# Altium footprint library 19inch.PCBLIB: 26 footprints (part 2 of 3)
Each footprint in its own frame and in the unit in brackets; x right, y up, seen from the top. Pads: shape width x height; smd on the part's side, far side on the other; paste and mask are expansions set on the pad; w line width, h text height; cw(c..) or ccw(c..) is an arc to the next point about the centre after c.
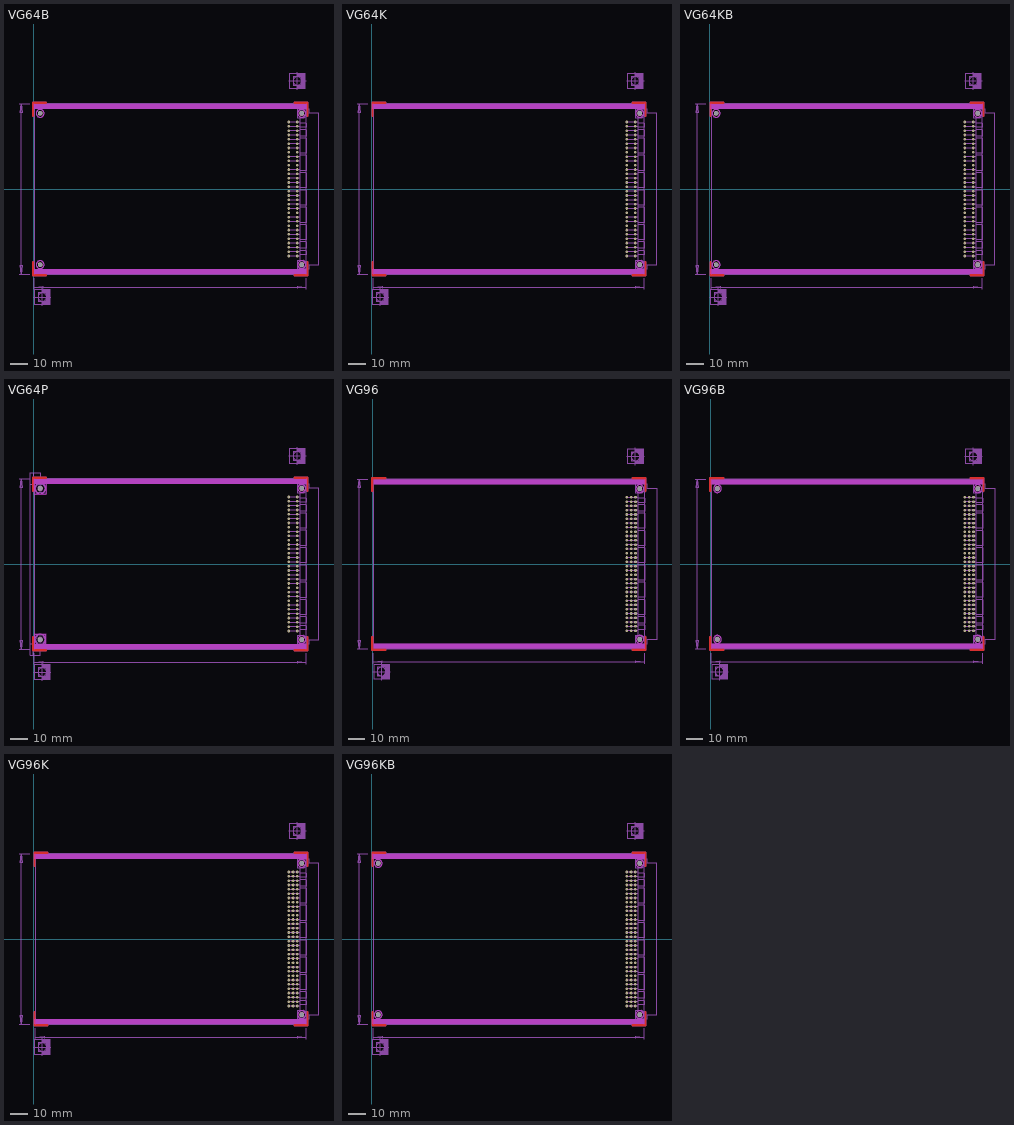
[diagram p1: the footprints below, top view; thin cyan lines are the x and y axes]

## VG64B [mil]
pads (68):
  round 110 hole 110: 1(150,-1750) 1(150,1750) 1(6200,-1750) 1(6200,1750)
  round 63 hole 36: A1(6100,1550)
  oct 61x61 hole 36: A2(6100,1450) A3(6100,1350) A4(6100,1250) A5(6100,1150) A6(6100,1050) A7(6100,950) A8(6100,850) A9(6100,750) A10(6100,650) A11(6100,550) A12(6100,450) A13(6100,350) A14(6100,250) A15(6100,150) A16(6100,50) A17(6100,-50) A18(6100,-150) A19(6100,-250) A20(6100,-350) A21(6100,-450) A22(6100,-550) A23(6100,-650) A24(6100,-750) A25(6100,-850) A26(6100,-950) A27(6100,-1050) A28(6100,-1150) A29(6100,-1250) A30(6100,-1350) A31(6100,-1450) A32(6100,-1550) C1(5900,1550) C2(5900,1450) C3(5900,1350) C4(5900,1250) C5(5900,1150) C6(5900,1050) C7(5900,950) C8(5900,850) C9(5900,750) C10(5900,650) C11(5900,550) C12(5900,450) C13(5900,350) C14(5900,250) C15(5900,150) C16(5900,50) C17(5900,-50) C18(5900,-150) C19(5900,-250) C20(5900,-350) C21(5900,-450) C22(5900,-550) C23(5900,-650) C24(5900,-750) C25(5900,-850) C26(5900,-950) C27(5900,-1050) C28(5900,-1150) C29(5900,-1250) C30(5900,-1350) C31(5900,-1450) C32(5900,-1550)
Top Layer:
  lines w50: -15,-1694 -15,-1994 285,-1994 ; -15,1694 -15,1994 285,1994 ; 6035,-1994 6335,-1994 6335,-1694 ; 6035,1994 6335,1994 6335,1694
Bottom Layer:
  lines w50: -15,-1694 -15,-1994 285,-1994 ; -15,1694 -15,1994 285,1994 ; 6035,-1994 6335,-1994 6335,-1694 ; 6035,1994 6335,1994 6335,1694
Top Solder:
  lines w6: 10,-1669 10,-1969 310,-1969 ; 10,1669 10,1969 310,1969 ; 6010,-1969 6310,-1969 6310,-1669 ; 6010,1969 6310,1969 6310,1669
Bottom Solder:
  lines w6: 10,-1669 10,-1969 310,-1969 ; 10,1669 10,1969 310,1969 ; 6010,-1969 6310,-1969 6310,-1669 ; 6010,1969 6310,1969 6310,1669
Keep-Out Layer:
  rectangle: 10,1850 6310,1969
  rectangle: 10,1850 6310,1969
  rectangle: 10,-1969 6310,-1850
  rectangle: 10,-1969 6310,-1850
  lines w2: 10,-1969 10,-1850 10,-1969 ; 10,1850 10,1969 10,1850 ; 6310,-1969 6310,-1850 6310,-1969 ; 6310,1850 6310,1969 6310,1850
Mechanical 1:
  lines w0: 10,-1969 6310,-1969 6310,1969 10,1969 10,-1969
Mechanical 2:
  circle w6: c6200,1750 r50
  circle w6: c6200,-1750 r50
  rectangle: 6135,1540 6150,1560
  rectangle: 5935,1540 6065,1560
  rectangle: 5935,1440 6065,1460
  rectangle: 5935,1340 6065,1360
  rectangle: 6135,1440 6150,1460
  rectangle: 6135,1340 6150,1360
  rectangle: 6135,1240 6150,1260
  rectangle: 5935,1240 6065,1260
  rectangle: 6135,1140 6150,1160
  rectangle: 6135,1040 6150,1060
  rectangle: 5935,1140 6065,1160
  rectangle: 5935,1040 6065,1060
  rectangle: 5935,940 6065,960
  rectangle: 6135,940 6150,960
  rectangle: 6135,840 6150,860
  rectangle: 5935,840 6065,860
  rectangle: 5935,740 6065,760
  rectangle: 6135,740 6150,760
  rectangle: 5935,640 6065,660
  rectangle: 6135,640 6150,660
  rectangle: 5935,540 6065,560
  rectangle: 6135,540 6150,560
  rectangle: 6135,440 6150,460
  rectangle: 6135,340 6150,360
  rectangle: 5935,440 6065,460
  rectangle: 5935,340 6065,360
  rectangle: 5935,240 6065,260
  rectangle: 6135,240 6150,260
  rectangle: 6135,140 6150,160
  rectangle: 5935,140 6065,160
  rectangle: 5935,40 6065,60
  rectangle: 6135,40 6150,60
  rectangle: 6135,-60 6150,-40
  rectangle: 5935,-60 6065,-40
  rectangle: 6135,-160 6150,-140
  rectangle: 5935,-160 6065,-140
  rectangle: 5935,-260 6065,-240
  rectangle: 6135,-260 6150,-240
  rectangle: 5935,-360 6065,-340
  rectangle: 6135,-360 6150,-340
  rectangle: 6135,-460 6150,-440
  rectangle: 6135,-560 6150,-540
  rectangle: 5935,-460 6065,-440
  rectangle: 5935,-560 6065,-540
  rectangle: 6135,-660 6150,-640
  rectangle: 5935,-660 6065,-640
  rectangle: 5935,-760 6065,-740
  rectangle: 6135,-760 6150,-740
  rectangle: 5935,-860 6065,-840
  rectangle: 6135,-860 6150,-840
  rectangle: 5935,-960 6065,-940
  rectangle: 6135,-960 6150,-940
  rectangle: 5935,-1060 6065,-1040
  rectangle: 6135,-1060 6150,-1040
  rectangle: 5935,-1160 6065,-1140
  rectangle: 6135,-1160 6150,-1140
  rectangle: 5935,-1260 6065,-1240
  rectangle: 6135,-1260 6150,-1240
  rectangle: 6135,-1360 6150,-1340
  rectangle: 5935,-1360 6065,-1340
  rectangle: 5935,-1460 6065,-1440
  rectangle: 6135,-1460 6150,-1440
  rectangle: 6135,-1560 6150,-1540
  rectangle: 5935,-1560 6065,-1540
  lines w2: 6150,-1525 6310,-1525 6310,-1425 6150,-1425 ; 6150,-1375 6310,-1375 6310,-1225 6150,-1225 ; 6150,-1175 6310,-1175 6310,-825 6150,-825 ; 6150,-775 6310,-775 6310,-425 6150,-425 ; 6150,-375 6310,-375 6310,-25 6150,-25 ; 6150,25 6310,25 6310,375 6150,375 ; 6150,425 6310,425 6310,775 6150,775 ; 6150,825 6310,825 6310,1175 6150,1175 ; 6150,1225 6310,1225 6310,1375 6150,1375 ; 6150,1425 6310,1425 6310,1525 6150,1525
  lines w6: 6150,-1650 6100,-1650 6100,-1850 6313,-1850 ; 6150,-1650 6250,-1650 6313,-1713 6313,-1850 ; 6150,-1650 6150,-1525 6150,-1425 6150,-1375 6150,-1225 6150,-1175 6150,-825 6150,-775 6150,-425 6150,-375 6150,-25 6150,25 6150,375 6150,425 6150,775 6150,825 6150,1175 6150,1225 6150,1375 6150,1425 6150,1525 6150,1650 ; 6150,1650 6100,1650 6100,1850 6313,1850 ; 6150,1650 6263,1650 6313,1700 6313,1850 ; 6313,-1850 6375,-1850 6375,-1750 6600,-1750 6600,1750 6375,1750 6375,1850 6313,1850
Mechanical 11 keep-out:
  circle w0: c6200,1750 r90
  circle w0: c6200,-1750 r90
  circle w0: c150,-1750 r90
  circle w0: c150,1750 r90
Mechanical 12:
  circle w0: c6200,1750 r90
  circle w0: c6200,-1750 r90
  circle w0: c150,-1750 r90
  circle w0: c150,1750 r90
  rectangle: 10,1850 6310,1969
  rectangle: 10,-1969 6310,-1850
Mechanical 14:
  lines w6: -340,-1969 -290,-1969 ; -340,1969 -290,1969 ; -90,-1969 -290,-1969 ; -90,1969 -290,1969 ; 10,-2319 10,-2269 ; 10,-2069 10,-2269 ; 10,-1669 10,-1969 310,-1969 ; 10,1669 10,1969 310,1969 ; 6010,-1969 6310,-1969 6310,-1669 ; 6010,1969 6310,1969 6310,1669 ; 6310,-2319 6310,-2269 ; 6310,-2069 6310,-2269 ; -290,-1969 -290,1969 ; -290,-1969 -315,-1769 -265,-1769 -290,-1969 ; -290,1969 -265,1769 -315,1769 -290,1969 ; 10,-2269 6310,-2269 ; 10,-2269 210,-2244 210,-2294 10,-2269 ; 6310,-2269 6110,-2294 6110,-2244 6310,-2269
Mechanical 16:
  circle w10: c6100,2499 r100
  circle w10: c200,-2499 r100
  rectangle: 6100,2324 6275,2399
  rectangle: 6200,2399 6275,2599
  rectangle: 6100,2599 6275,2674
  rectangle: 200,-2674 375,-2599
  rectangle: 300,-2599 375,-2399
  rectangle: 200,-2399 375,-2324
  lines w4: 0,-2499 25,-2499 400,-2499 ; 200,-2699 200,-2299 ; 5900,2499 5925,2499 6300,2499 ; 6100,2299 6100,2699
  lines w10: 25,-2674 375,-2674 375,-2324 25,-2324 25,-2499 25,-2674 ; 100,-2599 100,-2399 300,-2399 300,-2599 100,-2599 ; 5925,2324 6275,2324 6275,2674 5925,2674 5925,2499 5925,2324 ; 6000,2399 6000,2599 6200,2599 6200,2399 6000,2399
Mechanical 18:
  rectangle: 6065,1540 6135,1560
  rectangle: 5890,1540 5935,1560
  rectangle: 6065,1440 6135,1460
  rectangle: 5890,1440 5935,1460
  rectangle: 5890,1340 5935,1360
  rectangle: 6065,1340 6135,1360
  rectangle: 6065,1240 6135,1260
  rectangle: 5890,1240 5935,1260
  rectangle: 6065,1140 6135,1160
  rectangle: 6065,1040 6135,1060
  rectangle: 5890,1140 5935,1160
  rectangle: 5890,1040 5935,1060
  rectangle: 5890,940 5935,960
  rectangle: 6065,940 6135,960
  rectangle: 6065,840 6135,860
  rectangle: 5890,840 5935,860
  rectangle: 6065,740 6135,760
  rectangle: 5890,740 5935,760
  rectangle: 6065,640 6135,660
  rectangle: 5890,640 5935,660
  rectangle: 5890,540 5935,560
  rectangle: 6065,540 6135,560
  rectangle: 6065,440 6135,460
  rectangle: 6065,340 6135,360
  rectangle: 5890,440 5935,460
  rectangle: 5890,340 5935,360
  rectangle: 5890,240 5935,260
  rectangle: 6065,240 6135,260
  rectangle: 6065,140 6135,160
  rectangle: 5890,140 5935,160
  rectangle: 5890,40 5935,60
  rectangle: 6065,40 6135,60
  rectangle: 6065,-60 6135,-40
  rectangle: 5890,-60 5935,-40
  rectangle: 6065,-160 6135,-140
  rectangle: 5890,-160 5935,-140
  rectangle: 6065,-260 6135,-240
  rectangle: 5890,-260 5935,-240
  rectangle: 5890,-360 5935,-340
  rectangle: 6065,-360 6135,-340
  rectangle: 6065,-460 6135,-440
  rectangle: 5890,-460 5935,-440
  rectangle: 6065,-660 6135,-640
  rectangle: 5890,-660 5935,-640
  rectangle: 6065,-560 6135,-540
  rectangle: 5890,-560 5935,-540
  rectangle: 6065,-760 6135,-740
  rectangle: 5890,-760 5935,-740
  rectangle: 5890,-860 5935,-840
  rectangle: 6065,-860 6135,-840
  rectangle: 6065,-960 6135,-940
  rectangle: 5890,-960 5935,-940
  rectangle: 6065,-1060 6135,-1040
  rectangle: 5890,-1060 5935,-1040
  rectangle: 6065,-1160 6135,-1140
  rectangle: 5890,-1160 5935,-1140
  rectangle: 5890,-1260 5935,-1240
  rectangle: 6065,-1260 6135,-1240
  rectangle: 6065,-1360 6135,-1340
  rectangle: 5890,-1360 5935,-1340
  rectangle: 5890,-1460 5935,-1440
  rectangle: 6065,-1460 6135,-1440
  rectangle: 6065,-1560 6135,-1540
  rectangle: 5890,-1560 5935,-1540

## VG64K [mil]
pads (66):
  round 110 hole 110: 1(6200,-1750) 1(6200,1750)
  round 63 hole 36: A1(6100,1550)
  oct 61x61 hole 36: A2(6100,1450) A3(6100,1350) A4(6100,1250) A5(6100,1150) A6(6100,1050) A7(6100,950) A8(6100,850) A9(6100,750) A10(6100,650) A11(6100,550) A12(6100,450) A13(6100,350) A14(6100,250) A15(6100,150) A16(6100,50) A17(6100,-50) A18(6100,-150) A19(6100,-250) A20(6100,-350) A21(6100,-450) A22(6100,-550) A23(6100,-650) A24(6100,-750) A25(6100,-850) A26(6100,-950) A27(6100,-1050) A28(6100,-1150) A29(6100,-1250) A30(6100,-1350) A31(6100,-1450) A32(6100,-1550) C1(5900,1550) C2(5900,1450) C3(5900,1350) C4(5900,1250) C5(5900,1150) C6(5900,1050) C7(5900,950) C8(5900,850) C9(5900,750) C10(5900,650) C11(5900,550) C12(5900,450) C13(5900,350) C14(5900,250) C15(5900,150) C16(5900,50) C17(5900,-50) C18(5900,-150) C19(5900,-250) C20(5900,-350) C21(5900,-450) C22(5900,-550) C23(5900,-650) C24(5900,-750) C25(5900,-850) C26(5900,-950) C27(5900,-1050) C28(5900,-1150) C29(5900,-1250) C30(5900,-1350) C31(5900,-1450) C32(5900,-1550)
Top Layer:
  lines w50: 15,-1694 15,-1994 315,-1994 ; 15,1694 15,1994 315,1994 ; 6035,-1994 6335,-1994 6335,-1694 ; 6035,1994 6335,1994 6335,1694
Bottom Layer:
  lines w50: 15,-1694 15,-1994 315,-1994 ; 15,1694 15,1994 315,1994 ; 6035,-1994 6335,-1994 6335,-1694 ; 6035,1994 6335,1994 6335,1694
Top Solder:
  lines w6: 40,-1669 40,-1969 340,-1969 ; 40,1669 40,1969 340,1969 ; 6010,-1969 6310,-1969 6310,-1669 ; 6010,1969 6310,1969 6310,1669
Bottom Solder:
  lines w6: 40,-1669 40,-1969 340,-1969 ; 40,1669 40,1969 340,1969 ; 6010,-1969 6310,-1969 6310,-1669 ; 6010,1969 6310,1969 6310,1669
Keep-Out Layer:
  rectangle: 10,1850 6310,1969
  rectangle: 10,1850 6310,1969
  rectangle: 10,-1969 6310,-1850
  rectangle: 10,-1969 6310,-1850
  lines w2: 40,-1969 40,-1850 40,-1969 ; 40,1850 40,1969 40,1850 ; 6310,-1969 6310,-1850 6310,-1969 ; 6310,1850 6310,1969 6310,1850
Mechanical 1:
  lines w0: 40,-1969 6310,-1969 6310,1969 40,1969 40,-1969
Mechanical 2:
  circle w6: c6200,1750 r50
  circle w6: c6200,-1750 r50
  rectangle: 6135,1540 6150,1560
  rectangle: 5935,1540 6065,1560
  rectangle: 5935,1440 6065,1460
  rectangle: 5935,1340 6065,1360
  rectangle: 6135,1440 6150,1460
  rectangle: 6135,1340 6150,1360
  rectangle: 6135,1240 6150,1260
  rectangle: 5935,1240 6065,1260
  rectangle: 6135,1140 6150,1160
  rectangle: 6135,1040 6150,1060
  rectangle: 5935,1140 6065,1160
  rectangle: 5935,1040 6065,1060
  rectangle: 5935,940 6065,960
  rectangle: 6135,940 6150,960
  rectangle: 6135,840 6150,860
  rectangle: 5935,840 6065,860
  rectangle: 5935,740 6065,760
  rectangle: 6135,740 6150,760
  rectangle: 5935,640 6065,660
  rectangle: 6135,640 6150,660
  rectangle: 5935,540 6065,560
  rectangle: 6135,540 6150,560
  rectangle: 6135,440 6150,460
  rectangle: 6135,340 6150,360
  rectangle: 5935,440 6065,460
  rectangle: 5935,340 6065,360
  rectangle: 5935,240 6065,260
  rectangle: 6135,240 6150,260
  rectangle: 6135,140 6150,160
  rectangle: 5935,140 6065,160
  rectangle: 5935,40 6065,60
  rectangle: 6135,40 6150,60
  rectangle: 6135,-60 6150,-40
  rectangle: 5935,-60 6065,-40
  rectangle: 6135,-160 6150,-140
  rectangle: 5935,-160 6065,-140
  rectangle: 5935,-260 6065,-240
  rectangle: 6135,-260 6150,-240
  rectangle: 5935,-360 6065,-340
  rectangle: 6135,-360 6150,-340
  rectangle: 6135,-460 6150,-440
  rectangle: 6135,-560 6150,-540
  rectangle: 5935,-460 6065,-440
  rectangle: 5935,-560 6065,-540
  rectangle: 6135,-660 6150,-640
  rectangle: 5935,-660 6065,-640
  rectangle: 5935,-760 6065,-740
  rectangle: 6135,-760 6150,-740
  rectangle: 5935,-860 6065,-840
  rectangle: 6135,-860 6150,-840
  rectangle: 5935,-960 6065,-940
  rectangle: 6135,-960 6150,-940
  rectangle: 5935,-1060 6065,-1040
  rectangle: 6135,-1060 6150,-1040
  rectangle: 5935,-1160 6065,-1140
  rectangle: 6135,-1160 6150,-1140
  rectangle: 5935,-1260 6065,-1240
  rectangle: 6135,-1260 6150,-1240
  rectangle: 6135,-1360 6150,-1340
  rectangle: 5935,-1360 6065,-1340
  rectangle: 5935,-1460 6065,-1440
  rectangle: 6135,-1460 6150,-1440
  rectangle: 6135,-1560 6150,-1540
  rectangle: 5935,-1560 6065,-1540
  lines w2: 6150,-1525 6310,-1525 6310,-1425 6150,-1425 ; 6150,-1375 6310,-1375 6310,-1225 6150,-1225 ; 6150,-1175 6310,-1175 6310,-825 6150,-825 ; 6150,-775 6310,-775 6310,-425 6150,-425 ; 6150,-375 6310,-375 6310,-25 6150,-25 ; 6150,25 6310,25 6310,375 6150,375 ; 6150,425 6310,425 6310,775 6150,775 ; 6150,825 6310,825 6310,1175 6150,1175 ; 6150,1225 6310,1225 6310,1375 6150,1375 ; 6150,1425 6310,1425 6310,1525 6150,1525
  lines w6: 6150,-1650 6100,-1650 6100,-1850 6313,-1850 ; 6150,-1650 6250,-1650 6313,-1713 6313,-1850 ; 6150,-1650 6150,-1525 6150,-1425 6150,-1375 6150,-1225 6150,-1175 6150,-825 6150,-775 6150,-425 6150,-375 6150,-25 6150,25 6150,375 6150,425 6150,775 6150,825 6150,1175 6150,1225 6150,1375 6150,1425 6150,1525 6150,1650 ; 6150,1650 6100,1650 6100,1850 6313,1850 ; 6150,1650 6263,1650 6313,1700 6313,1850 ; 6313,-1850 6375,-1850 6375,-1750 6600,-1750 6600,1750 6375,1750 6375,1850 6313,1850
Mechanical 11 keep-out:
  circle w0: c6200,-1750 r90
  circle w0: c6200,1750 r90
Mechanical 12:
  circle w0: c6200,-1750 r90
  circle w0: c6200,1750 r90
  rectangle: 10,1850 6310,1969
  rectangle: 10,-1969 6310,-1850
Mechanical 14:
  lines w6: -340,-1969 -290,-1969 ; -340,1969 -290,1969 ; -90,-1969 -290,-1969 ; -90,1969 -290,1969 ; 40,-2319 40,-2269 ; 40,-2069 40,-2269 ; 40,-1669 40,-1969 340,-1969 ; 40,1669 40,1969 340,1969 ; 6010,-1969 6310,-1969 6310,-1669 ; 6010,1969 6310,1969 6310,1669 ; 6310,-2319 6310,-2269 ; 6310,-2069 6310,-2269 ; -290,-1969 -290,1969 ; -290,-1969 -315,-1769 -265,-1769 -290,-1969 ; -290,1969 -265,1769 -315,1769 -290,1969 ; 40,-2269 6310,-2269 ; 40,-2269 240,-2244 240,-2294 40,-2269 ; 6310,-2269 6110,-2294 6110,-2244 6310,-2269
Mechanical 16:
  circle w10: c6100,2499 r100
  circle w10: c200,-2499 r100
  rectangle: 6100,2324 6275,2399
  rectangle: 6200,2399 6275,2599
  rectangle: 6100,2599 6275,2674
  rectangle: 200,-2674 375,-2599
  rectangle: 300,-2599 375,-2399
  rectangle: 200,-2399 375,-2324
  lines w4: 0,-2499 25,-2499 400,-2499 ; 200,-2699 200,-2299 ; 5900,2499 5925,2499 6300,2499 ; 6100,2299 6100,2699
  lines w10: 25,-2674 375,-2674 375,-2324 25,-2324 25,-2499 25,-2674 ; 100,-2599 100,-2399 300,-2399 300,-2599 100,-2599 ; 5925,2324 6275,2324 6275,2674 5925,2674 5925,2499 5925,2324 ; 6000,2399 6000,2599 6200,2599 6200,2399 6000,2399
Mechanical 18:
  rectangle: 6065,1540 6135,1560
  rectangle: 5890,1540 5935,1560
  rectangle: 6065,1440 6135,1460
  rectangle: 5890,1440 5935,1460
  rectangle: 5890,1340 5935,1360
  rectangle: 6065,1340 6135,1360
  rectangle: 6065,1240 6135,1260
  rectangle: 5890,1240 5935,1260
  rectangle: 6065,1140 6135,1160
  rectangle: 6065,1040 6135,1060
  rectangle: 5890,1140 5935,1160
  rectangle: 5890,1040 5935,1060
  rectangle: 5890,940 5935,960
  rectangle: 6065,940 6135,960
  rectangle: 6065,840 6135,860
  rectangle: 5890,840 5935,860
  rectangle: 6065,740 6135,760
  rectangle: 5890,740 5935,760
  rectangle: 6065,640 6135,660
  rectangle: 5890,640 5935,660
  rectangle: 5890,540 5935,560
  rectangle: 6065,540 6135,560
  rectangle: 6065,440 6135,460
  rectangle: 6065,340 6135,360
  rectangle: 5890,440 5935,460
  rectangle: 5890,340 5935,360
  rectangle: 5890,240 5935,260
  rectangle: 6065,240 6135,260
  rectangle: 6065,140 6135,160
  rectangle: 5890,140 5935,160
  rectangle: 5890,40 5935,60
  rectangle: 6065,40 6135,60
  rectangle: 6065,-60 6135,-40
  rectangle: 5890,-60 5935,-40
  rectangle: 6065,-160 6135,-140
  rectangle: 5890,-160 5935,-140
  rectangle: 6065,-260 6135,-240
  rectangle: 5890,-260 5935,-240
  rectangle: 5890,-360 5935,-340
  rectangle: 6065,-360 6135,-340
  rectangle: 6065,-460 6135,-440
  rectangle: 5890,-460 5935,-440
  rectangle: 6065,-660 6135,-640
  rectangle: 5890,-660 5935,-640
  rectangle: 6065,-560 6135,-540
  rectangle: 5890,-560 5935,-540
  rectangle: 6065,-760 6135,-740
  rectangle: 5890,-760 5935,-740
  rectangle: 5890,-860 5935,-840
  rectangle: 6065,-860 6135,-840
  rectangle: 6065,-960 6135,-940
  rectangle: 5890,-960 5935,-940
  rectangle: 6065,-1060 6135,-1040
  rectangle: 5890,-1060 5935,-1040
  rectangle: 6065,-1160 6135,-1140
  rectangle: 5890,-1160 5935,-1140
  rectangle: 5890,-1260 5935,-1240
  rectangle: 6065,-1260 6135,-1240
  rectangle: 6065,-1360 6135,-1340
  rectangle: 5890,-1360 5935,-1340
  rectangle: 5890,-1460 5935,-1440
  rectangle: 6065,-1460 6135,-1440
  rectangle: 6065,-1560 6135,-1540
  rectangle: 5890,-1560 5935,-1540

## VG64KB [mil]
pads (68):
  round 110 hole 110: 1(150,-1750) 1(150,1750) 1(6200,-1750) 1(6200,1750)
  round 63 hole 36: A1(6100,1550)
  oct 61x61 hole 36: A2(6100,1450) A3(6100,1350) A4(6100,1250) A5(6100,1150) A6(6100,1050) A7(6100,950) A8(6100,850) A9(6100,750) A10(6100,650) A11(6100,550) A12(6100,450) A13(6100,350) A14(6100,250) A15(6100,150) A16(6100,50) A17(6100,-50) A18(6100,-150) A19(6100,-250) A20(6100,-350) A21(6100,-450) A22(6100,-550) A23(6100,-650) A24(6100,-750) A25(6100,-850) A26(6100,-950) A27(6100,-1050) A28(6100,-1150) A29(6100,-1250) A30(6100,-1350) A31(6100,-1450) A32(6100,-1550) C1(5900,1550) C2(5900,1450) C3(5900,1350) C4(5900,1250) C5(5900,1150) C6(5900,1050) C7(5900,950) C8(5900,850) C9(5900,750) C10(5900,650) C11(5900,550) C12(5900,450) C13(5900,350) C14(5900,250) C15(5900,150) C16(5900,50) C17(5900,-50) C18(5900,-150) C19(5900,-250) C20(5900,-350) C21(5900,-450) C22(5900,-550) C23(5900,-650) C24(5900,-750) C25(5900,-850) C26(5900,-950) C27(5900,-1050) C28(5900,-1150) C29(5900,-1250) C30(5900,-1350) C31(5900,-1450) C32(5900,-1550)
Top Layer:
  lines w50: 15,-1694 15,-1994 315,-1994 ; 15,1694 15,1994 315,1994 ; 6035,-1994 6335,-1994 6335,-1694 ; 6035,1994 6335,1994 6335,1694
Bottom Layer:
  lines w50: 15,-1694 15,-1994 315,-1994 ; 15,1694 15,1994 315,1994 ; 6035,-1994 6335,-1994 6335,-1694 ; 6035,1994 6335,1994 6335,1694
Top Solder:
  lines w6: 40,-1669 40,-1969 340,-1969 ; 40,1669 40,1969 340,1969 ; 6010,-1969 6310,-1969 6310,-1669 ; 6010,1969 6310,1969 6310,1669
Bottom Solder:
  lines w6: 40,-1669 40,-1969 340,-1969 ; 40,1669 40,1969 340,1969 ; 6010,-1969 6310,-1969 6310,-1669 ; 6010,1969 6310,1969 6310,1669
Keep-Out Layer:
  rectangle: 10,1850 6310,1969
  rectangle: 10,1850 6310,1969
  rectangle: 10,-1969 6310,-1850
  rectangle: 10,-1969 6310,-1850
  lines w2: 40,-1969 40,-1850 40,-1969 ; 40,1850 40,1969 40,1850 ; 6310,-1969 6310,-1850 6310,-1969 ; 6310,1850 6310,1969 6310,1850
Mechanical 1:
  lines w0: 40,-1969 6310,-1969 6310,1969 40,1969 40,-1969
Mechanical 2:
  circle w6: c6200,1750 r50
  circle w6: c6200,-1750 r50
  rectangle: 6135,1540 6150,1560
  rectangle: 5935,1540 6065,1560
  rectangle: 5935,1440 6065,1460
  rectangle: 5935,1340 6065,1360
  rectangle: 6135,1440 6150,1460
  rectangle: 6135,1340 6150,1360
  rectangle: 6135,1240 6150,1260
  rectangle: 5935,1240 6065,1260
  rectangle: 6135,1140 6150,1160
  rectangle: 6135,1040 6150,1060
  rectangle: 5935,1140 6065,1160
  rectangle: 5935,1040 6065,1060
  rectangle: 5935,940 6065,960
  rectangle: 6135,940 6150,960
  rectangle: 6135,840 6150,860
  rectangle: 5935,840 6065,860
  rectangle: 5935,740 6065,760
  rectangle: 6135,740 6150,760
  rectangle: 5935,640 6065,660
  rectangle: 6135,640 6150,660
  rectangle: 5935,540 6065,560
  rectangle: 6135,540 6150,560
  rectangle: 6135,440 6150,460
  rectangle: 6135,340 6150,360
  rectangle: 5935,440 6065,460
  rectangle: 5935,340 6065,360
  rectangle: 5935,240 6065,260
  rectangle: 6135,240 6150,260
  rectangle: 6135,140 6150,160
  rectangle: 5935,140 6065,160
  rectangle: 5935,40 6065,60
  rectangle: 6135,40 6150,60
  rectangle: 6135,-60 6150,-40
  rectangle: 5935,-60 6065,-40
  rectangle: 6135,-160 6150,-140
  rectangle: 5935,-160 6065,-140
  rectangle: 5935,-260 6065,-240
  rectangle: 6135,-260 6150,-240
  rectangle: 5935,-360 6065,-340
  rectangle: 6135,-360 6150,-340
  rectangle: 6135,-460 6150,-440
  rectangle: 6135,-560 6150,-540
  rectangle: 5935,-460 6065,-440
  rectangle: 5935,-560 6065,-540
  rectangle: 6135,-660 6150,-640
  rectangle: 5935,-660 6065,-640
  rectangle: 5935,-760 6065,-740
  rectangle: 6135,-760 6150,-740
  rectangle: 5935,-860 6065,-840
  rectangle: 6135,-860 6150,-840
  rectangle: 5935,-960 6065,-940
  rectangle: 6135,-960 6150,-940
  rectangle: 5935,-1060 6065,-1040
  rectangle: 6135,-1060 6150,-1040
  rectangle: 5935,-1160 6065,-1140
  rectangle: 6135,-1160 6150,-1140
  rectangle: 5935,-1260 6065,-1240
  rectangle: 6135,-1260 6150,-1240
  rectangle: 6135,-1360 6150,-1340
  rectangle: 5935,-1360 6065,-1340
  rectangle: 5935,-1460 6065,-1440
  rectangle: 6135,-1460 6150,-1440
  rectangle: 6135,-1560 6150,-1540
  rectangle: 5935,-1560 6065,-1540
  lines w2: 6150,-1525 6310,-1525 6310,-1425 6150,-1425 ; 6150,-1375 6310,-1375 6310,-1225 6150,-1225 ; 6150,-1175 6310,-1175 6310,-825 6150,-825 ; 6150,-775 6310,-775 6310,-425 6150,-425 ; 6150,-375 6310,-375 6310,-25 6150,-25 ; 6150,25 6310,25 6310,375 6150,375 ; 6150,425 6310,425 6310,775 6150,775 ; 6150,825 6310,825 6310,1175 6150,1175 ; 6150,1225 6310,1225 6310,1375 6150,1375 ; 6150,1425 6310,1425 6310,1525 6150,1525
  lines w6: 6150,-1650 6100,-1650 6100,-1850 6313,-1850 ; 6150,-1650 6250,-1650 6313,-1713 6313,-1850 ; 6150,-1650 6150,-1525 6150,-1425 6150,-1375 6150,-1225 6150,-1175 6150,-825 6150,-775 6150,-425 6150,-375 6150,-25 6150,25 6150,375 6150,425 6150,775 6150,825 6150,1175 6150,1225 6150,1375 6150,1425 6150,1525 6150,1650 ; 6150,1650 6100,1650 6100,1850 6313,1850 ; 6150,1650 6263,1650 6313,1700 6313,1850 ; 6313,-1850 6375,-1850 6375,-1750 6600,-1750 6600,1750 6375,1750 6375,1850 6313,1850
Mechanical 11 keep-out:
  circle w0: c6200,-1750 r90
  circle w0: c6200,1750 r90
  circle w0: c150,-1750 r90
  circle w0: c150,1750 r90
Mechanical 12:
  circle w0: c6200,-1750 r90
  circle w0: c6200,1750 r90
  circle w0: c150,-1750 r90
  circle w0: c150,1750 r90
  rectangle: 10,1850 6310,1969
  rectangle: 10,-1969 6310,-1850
Mechanical 14:
  lines w6: -340,-1969 -290,-1969 ; -340,1969 -290,1969 ; -90,-1969 -290,-1969 ; -90,1969 -290,1969 ; 40,-2319 40,-2269 ; 40,-2069 40,-2269 ; 40,-1669 40,-1969 340,-1969 ; 40,1669 40,1969 340,1969 ; 6010,-1969 6310,-1969 6310,-1669 ; 6010,1969 6310,1969 6310,1669 ; 6310,-2319 6310,-2269 ; 6310,-2069 6310,-2269 ; -290,-1969 -290,1969 ; -290,-1969 -315,-1769 -265,-1769 -290,-1969 ; -290,1969 -265,1769 -315,1769 -290,1969 ; 40,-2269 6310,-2269 ; 40,-2269 240,-2244 240,-2294 40,-2269 ; 6310,-2269 6110,-2294 6110,-2244 6310,-2269
Mechanical 16:
  circle w10: c6100,2499 r100
  circle w10: c200,-2499 r100
  rectangle: 6100,2324 6275,2399
  rectangle: 6200,2399 6275,2599
  rectangle: 6100,2599 6275,2674
  rectangle: 200,-2674 375,-2599
  rectangle: 300,-2599 375,-2399
  rectangle: 200,-2399 375,-2324
  lines w4: 0,-2499 25,-2499 400,-2499 ; 200,-2699 200,-2299 ; 5900,2499 5925,2499 6300,2499 ; 6100,2299 6100,2699
  lines w10: 25,-2674 375,-2674 375,-2324 25,-2324 25,-2499 25,-2674 ; 100,-2599 100,-2399 300,-2399 300,-2599 100,-2599 ; 5925,2324 6275,2324 6275,2674 5925,2674 5925,2499 5925,2324 ; 6000,2399 6000,2599 6200,2599 6200,2399 6000,2399
Mechanical 18:
  rectangle: 6065,1540 6135,1560
  rectangle: 5890,1540 5935,1560
  rectangle: 6065,1440 6135,1460
  rectangle: 5890,1440 5935,1460
  rectangle: 5890,1340 5935,1360
  rectangle: 6065,1340 6135,1360
  rectangle: 6065,1240 6135,1260
  rectangle: 5890,1240 5935,1260
  rectangle: 6065,1140 6135,1160
  rectangle: 6065,1040 6135,1060
  rectangle: 5890,1140 5935,1160
  rectangle: 5890,1040 5935,1060
  rectangle: 5890,940 5935,960
  rectangle: 6065,940 6135,960
  rectangle: 6065,840 6135,860
  rectangle: 5890,840 5935,860
  rectangle: 6065,740 6135,760
  rectangle: 5890,740 5935,760
  rectangle: 6065,640 6135,660
  rectangle: 5890,640 5935,660
  rectangle: 5890,540 5935,560
  rectangle: 6065,540 6135,560
  rectangle: 6065,440 6135,460
  rectangle: 6065,340 6135,360
  rectangle: 5890,440 5935,460
  rectangle: 5890,340 5935,360
  rectangle: 5890,240 5935,260
  rectangle: 6065,240 6135,260
  rectangle: 6065,140 6135,160
  rectangle: 5890,140 5935,160
  rectangle: 5890,40 5935,60
  rectangle: 6065,40 6135,60
  rectangle: 6065,-60 6135,-40
  rectangle: 5890,-60 5935,-40
  rectangle: 6065,-160 6135,-140
  rectangle: 5890,-160 5935,-140
  rectangle: 6065,-260 6135,-240
  rectangle: 5890,-260 5935,-240
  rectangle: 5890,-360 5935,-340
  rectangle: 6065,-360 6135,-340
  rectangle: 6065,-460 6135,-440
  rectangle: 5890,-460 5935,-440
  rectangle: 6065,-660 6135,-640
  rectangle: 5890,-660 5935,-640
  rectangle: 6065,-560 6135,-540
  rectangle: 5890,-560 5935,-540
  rectangle: 6065,-760 6135,-740
  rectangle: 5890,-760 5935,-740
  rectangle: 5890,-860 5935,-840
  rectangle: 6065,-860 6135,-840
  rectangle: 6065,-960 6135,-940
  rectangle: 5890,-960 5935,-940
  rectangle: 6065,-1060 6135,-1040
  rectangle: 5890,-1060 5935,-1040
  rectangle: 6065,-1160 6135,-1140
  rectangle: 5890,-1160 5935,-1140
  rectangle: 5890,-1260 5935,-1240
  rectangle: 6065,-1260 6135,-1240
  rectangle: 6065,-1360 6135,-1340
  rectangle: 5890,-1360 5935,-1340
  rectangle: 5890,-1460 5935,-1440
  rectangle: 6065,-1460 6135,-1440
  rectangle: 6065,-1560 6135,-1540
  rectangle: 5890,-1560 5935,-1540

## VG64P [mil]
pads (68):
  round 110 hole 110: 1(150,-1750) 1(150,1750) 1(6200,-1750) 1(6200,1750)
  round 63 hole 36: A1(6100,1550)
  oct 61x61 hole 36: A2(6100,1450) A3(6100,1350) A4(6100,1250) A5(6100,1150) A6(6100,1050) A7(6100,950) A8(6100,850) A9(6100,750) A10(6100,650) A11(6100,550) A12(6100,450) A13(6100,350) A14(6100,250) A15(6100,150) A16(6100,50) A17(6100,-50) A18(6100,-150) A19(6100,-250) A20(6100,-350) A21(6100,-450) A22(6100,-550) A23(6100,-650) A24(6100,-750) A25(6100,-850) A26(6100,-950) A27(6100,-1050) A28(6100,-1150) A29(6100,-1250) A30(6100,-1350) A31(6100,-1450) A32(6100,-1550) C1(5900,1550) C2(5900,1450) C3(5900,1350) C4(5900,1250) C5(5900,1150) C6(5900,1050) C7(5900,950) C8(5900,850) C9(5900,750) C10(5900,650) C11(5900,550) C12(5900,450) C13(5900,350) C14(5900,250) C15(5900,150) C16(5900,50) C17(5900,-50) C18(5900,-150) C19(5900,-250) C20(5900,-350) C21(5900,-450) C22(5900,-550) C23(5900,-650) C24(5900,-750) C25(5900,-850) C26(5900,-950) C27(5900,-1050) C28(5900,-1150) C29(5900,-1250) C30(5900,-1350) C31(5900,-1450) C32(5900,-1550)
Top Layer:
  lines w50: -15,-1694 -15,-1994 285,-1994 ; -15,1694 -15,1994 285,1994 ; 6035,-1994 6335,-1994 6335,-1694 ; 6035,1994 6335,1994 6335,1694
Bottom Layer:
  lines w50: -15,-1694 -15,-1994 285,-1994 ; -15,1694 -15,1994 285,1994 ; 6035,-1994 6335,-1994 6335,-1694 ; 6035,1994 6335,1994 6335,1694
Top Solder:
  lines w6: 10,-1669 10,-1969 310,-1969 ; 10,1669 10,1969 310,1969 ; 6010,-1969 6310,-1969 6310,-1669 ; 6010,1969 6310,1969 6310,1669
Bottom Solder:
  lines w6: 10,-1669 10,-1969 310,-1969 ; 10,1669 10,1969 310,1969 ; 6010,-1969 6310,-1969 6310,-1669 ; 6010,1969 6310,1969 6310,1669
Keep-Out Layer:
  rectangle: 10,1850 6310,1969
  rectangle: 10,1850 6310,1969
  rectangle: 10,-1969 6310,-1850
  rectangle: 10,-1969 6310,-1850
  lines w2: 10,-1615 285,-1615 ; 10,-1615 10,-1969 10,-1615 ; 10,-1615 285,-1615 ; 10,1615 285,1615 ; 10,1615 10,1969 10,1615 ; 10,1615 285,1615 ; 285,-1615 285,-1850 285,-1615 ; 285,1615 285,1850 285,1615 ; 6310,-1969 6310,-1850 6310,-1969 ; 6310,1850 6310,1969 6310,1850
Mechanical 1:
  lines w0: 10,-1969 6310,-1969 6310,1969 10,1969 10,-1969
Mechanical 2:
  drawing of 170 lines, arcs and shapes, not listed
Mechanical 11 keep-out:
  circle w0: c150,1750 r125
  circle w0: c150,-1750 r125
  circle w0: c6200,1750 r90
  circle w0: c6200,-1750 r90
Mechanical 12:
  circle w0: c150,1750 r125
  circle w0: c150,-1750 r125
  circle w0: c6200,1750 r90
  circle w0: c6200,-1750 r90
  rectangle: 10,1850 6310,1969
  rectangle: 10,-1969 6310,-1850
Mechanical 14:
  lines w6: -340,-1969 -290,-1969 ; -340,1969 -290,1969 ; -90,-1969 -290,-1969 ; -90,1969 -290,1969 ; 10,-2319 10,-2269 ; 10,-2069 10,-2269 ; 10,-1669 10,-1969 310,-1969 ; 10,1669 10,1969 310,1969 ; 6010,-1969 6310,-1969 6310,-1669 ; 6010,1969 6310,1969 6310,1669 ; 6310,-2319 6310,-2269 ; 6310,-2069 6310,-2269 ; -290,-1969 -290,1969 ; -290,-1969 -315,-1769 -265,-1769 -290,-1969 ; -290,1969 -265,1769 -315,1769 -290,1969 ; 10,-2269 6310,-2269 ; 10,-2269 210,-2244 210,-2294 10,-2269 ; 6310,-2269 6110,-2294 6110,-2244 6310,-2269
Mechanical 16:
  circle w10: c6100,2499 r100
  circle w10: c200,-2499 r100
  rectangle: 6100,2324 6275,2399
  rectangle: 6200,2399 6275,2599
  rectangle: 6100,2599 6275,2674
  rectangle: 200,-2674 375,-2599
  rectangle: 300,-2599 375,-2399
  rectangle: 200,-2399 375,-2324
  lines w4: 0,-2499 25,-2499 400,-2499 ; 200,-2699 200,-2299 ; 5900,2499 5925,2499 6300,2499 ; 6100,2299 6100,2699
  lines w10: 25,-2674 375,-2674 375,-2324 25,-2324 25,-2499 25,-2674 ; 100,-2599 100,-2399 300,-2399 300,-2599 100,-2599 ; 5925,2324 6275,2324 6275,2674 5925,2674 5925,2499 5925,2324 ; 6000,2399 6000,2599 6200,2599 6200,2399 6000,2399
Mechanical 18:
  rectangle: 6065,1540 6135,1560
  rectangle: 5890,1540 5935,1560
  rectangle: 6065,1440 6135,1460
  rectangle: 5890,1440 5935,1460
  rectangle: 5890,1340 5935,1360
  rectangle: 6065,1340 6135,1360
  rectangle: 6065,1240 6135,1260
  rectangle: 5890,1240 5935,1260
  rectangle: 6065,1140 6135,1160
  rectangle: 6065,1040 6135,1060
  rectangle: 5890,1140 5935,1160
  rectangle: 5890,1040 5935,1060
  rectangle: 5890,940 5935,960
  rectangle: 6065,940 6135,960
  rectangle: 6065,840 6135,860
  rectangle: 5890,840 5935,860
  rectangle: 6065,740 6135,760
  rectangle: 5890,740 5935,760
  rectangle: 6065,640 6135,660
  rectangle: 5890,640 5935,660
  rectangle: 5890,540 5935,560
  rectangle: 6065,540 6135,560
  rectangle: 6065,440 6135,460
  rectangle: 6065,340 6135,360
  rectangle: 5890,440 5935,460
  rectangle: 5890,340 5935,360
  rectangle: 5890,240 5935,260
  rectangle: 6065,240 6135,260
  rectangle: 6065,140 6135,160
  rectangle: 5890,140 5935,160
  rectangle: 5890,40 5935,60
  rectangle: 6065,40 6135,60
  rectangle: 6065,-60 6135,-40
  rectangle: 5890,-60 5935,-40
  rectangle: 6065,-160 6135,-140
  rectangle: 5890,-160 5935,-140
  rectangle: 6065,-260 6135,-240
  rectangle: 5890,-260 5935,-240
  rectangle: 5890,-360 5935,-340
  rectangle: 6065,-360 6135,-340
  rectangle: 6065,-460 6135,-440
  rectangle: 5890,-460 5935,-440
  rectangle: 6065,-660 6135,-640
  rectangle: 5890,-660 5935,-640
  rectangle: 6065,-560 6135,-540
  rectangle: 5890,-560 5935,-540
  rectangle: 6065,-760 6135,-740
  rectangle: 5890,-760 5935,-740
  rectangle: 5890,-860 5935,-840
  rectangle: 6065,-860 6135,-840
  rectangle: 6065,-960 6135,-940
  rectangle: 5890,-960 5935,-940
  rectangle: 6065,-1060 6135,-1040
  rectangle: 5890,-1060 5935,-1040
  rectangle: 6065,-1160 6135,-1140
  rectangle: 5890,-1160 5935,-1140
  rectangle: 5890,-1260 5935,-1240
  rectangle: 6065,-1260 6135,-1240
  rectangle: 6065,-1360 6135,-1340
  rectangle: 5890,-1360 5935,-1340
  rectangle: 5890,-1460 5935,-1440
  rectangle: 6065,-1460 6135,-1440
  rectangle: 6065,-1560 6135,-1540
  rectangle: 5890,-1560 5935,-1540

## VG96 [mil]
pads (98):
  round 110 hole 110: 1(6200,-1750) 1(6200,1750)
  round 63 hole 36: A1(6100,1550)
  oct 61x61 hole 36: A2(6100,1450) A3(6100,1350) A4(6100,1250) A5(6100,1150) A6(6100,1050) A7(6100,950) A8(6100,850) A9(6100,750) A10(6100,650) A11(6100,550) A12(6100,450) A13(6100,350) A14(6100,250) A15(6100,150) A16(6100,50) A17(6100,-50) A18(6100,-150) A19(6100,-250) A20(6100,-350) A21(6100,-450) A22(6100,-550) A23(6100,-650) A24(6100,-750) A25(6100,-850) A26(6100,-950) A27(6100,-1050) A28(6100,-1150) A29(6100,-1250) A30(6100,-1350) A31(6100,-1450) A32(6100,-1550) B1(6000,1550) B2(6000,1450) B3(6000,1350) B4(6000,1250) B5(6000,1150) B6(6000,1050) B7(6000,950) B8(6000,850) B9(6000,750) B10(6000,650) B11(6000,550) B12(6000,450) B13(6000,350) B14(6000,250) B15(6000,150) B16(6000,50) B17(6000,-50) B18(6000,-150) B19(6000,-250) B20(6000,-350) B21(6000,-450) B22(6000,-550) B23(6000,-650) B24(6000,-750) B25(6000,-850) B26(6000,-950) B27(6000,-1050) B28(6000,-1150) B29(6000,-1250) B30(6000,-1350) B31(6000,-1450) B32(6000,-1550) C1(5900,1550) C2(5900,1450) C3(5900,1350) C4(5900,1250) C5(5900,1150) C6(5900,1050) C7(5900,950) C8(5900,850) C9(5900,750) C10(5900,650) C11(5900,550) C12(5900,450) C13(5900,350) C14(5900,250) C15(5900,150) C16(5900,50) C17(5900,-50) C18(5900,-150) C19(5900,-250) C20(5900,-350) C21(5900,-450) C22(5900,-550) C23(5900,-650) C24(5900,-750) C25(5900,-850) C26(5900,-950) C27(5900,-1050) C28(5900,-1150) C29(5900,-1250) C30(5900,-1350) C31(5900,-1450) C32(5900,-1550)
Top Layer:
  lines w50: -15,-1694 -15,-1994 285,-1994 ; -15,1694 -15,1994 285,1994 ; 6035,-1994 6335,-1994 6335,-1694 ; 6035,1994 6335,1994 6335,1694
Bottom Layer:
  lines w50: -15,-1694 -15,-1994 285,-1994 ; -15,1694 -15,1994 285,1994 ; 6035,-1994 6335,-1994 6335,-1694 ; 6035,1994 6335,1994 6335,1694
Top Solder:
  lines w6: 10,-1669 10,-1969 310,-1969 ; 10,1669 10,1969 310,1969 ; 6010,-1969 6310,-1969 6310,-1669 ; 6010,1969 6310,1969 6310,1669
Bottom Solder:
  lines w6: 10,-1669 10,-1969 310,-1969 ; 10,1669 10,1969 310,1969 ; 6010,-1969 6310,-1969 6310,-1669 ; 6010,1969 6310,1969 6310,1669
Keep-Out Layer:
  rectangle: 10,1850 6310,1969
  rectangle: 10,1850 6310,1969
  rectangle: 10,-1969 6310,-1850
  rectangle: 10,-1969 6310,-1850
  lines w2: 6310,-1969 6310,-1850 6310,-1969 ; 6310,1850 6310,1969 6310,1850
Mechanical 1:
  lines w0: 10,-1969 6310,-1969 6310,1969 10,1969 10,-1969
Mechanical 2:
  drawing of 168 lines, arcs and shapes, not listed
Mechanical 11 keep-out:
  circle w0: c6200,-1750 r90
  circle w0: c6200,1750 r90
Mechanical 12:
  circle w0: c6200,-1750 r90
  circle w0: c6200,1750 r90
  rectangle: 10,1850 6310,1969
  rectangle: 10,-1969 6310,-1850
Mechanical 14:
  lines w6: -370,-1969 -320,-1969 ; -370,1969 -320,1969 ; -120,-1969 -320,-1969 ; -120,1969 -320,1969 ; 10,-2319 10,-2269 ; 10,-2069 10,-2269 ; 10,-1669 10,-1969 310,-1969 ; 10,1669 10,1969 310,1969 ; 6010,-1969 6310,-1969 6310,-1669 ; 6010,1969 6310,1969 6310,1669 ; 6310,-2319 6310,-2269 ; 6310,-2069 6310,-2269 ; -320,-1969 -320,1969 ; -320,-1969 -345,-1769 -295,-1769 -320,-1969 ; -320,1969 -295,1769 -345,1769 -320,1969 ; 10,-2269 6310,-2269 ; 10,-2269 210,-2244 210,-2294 10,-2269 ; 6310,-2269 6110,-2294 6110,-2244 6310,-2269
Mechanical 16:
  circle w10: c6100,2499 r100
  circle w10: c200,-2499 r100
  rectangle: 6100,2324 6275,2399
  rectangle: 6200,2399 6275,2599
  rectangle: 6100,2599 6275,2674
  rectangle: 200,-2674 375,-2599
  rectangle: 300,-2599 375,-2399
  rectangle: 200,-2399 375,-2324
  lines w4: 0,-2499 25,-2499 400,-2499 ; 200,-2699 200,-2299 ; 5900,2499 5925,2499 6300,2499 ; 6100,2299 6100,2699
  lines w10: 25,-2674 375,-2674 375,-2324 25,-2324 25,-2499 25,-2674 ; 100,-2599 100,-2399 300,-2399 300,-2599 100,-2599 ; 5925,2324 6275,2324 6275,2674 5925,2674 5925,2499 5925,2324 ; 6000,2399 6000,2599 6200,2599 6200,2399 6000,2399
Mechanical 18:
  rectangle: 6065,1540 6135,1560
  rectangle: 5890,1540 5935,1560
  rectangle: 6065,1440 6135,1460
  rectangle: 5890,1440 5935,1460
  rectangle: 5890,1340 5935,1360
  rectangle: 6065,1340 6135,1360
  rectangle: 6065,1240 6135,1260
  rectangle: 5890,1240 5935,1260
  rectangle: 6065,1140 6135,1160
  rectangle: 6065,1040 6135,1060
  rectangle: 5890,1140 5935,1160
  rectangle: 5890,1040 5935,1060
  rectangle: 5890,940 5935,960
  rectangle: 6065,940 6135,960
  rectangle: 6065,840 6135,860
  rectangle: 5890,840 5935,860
  rectangle: 6065,740 6135,760
  rectangle: 5890,740 5935,760
  rectangle: 6065,640 6135,660
  rectangle: 5890,640 5935,660
  rectangle: 5890,540 5935,560
  rectangle: 6065,540 6135,560
  rectangle: 6065,440 6135,460
  rectangle: 6065,340 6135,360
  rectangle: 5890,440 5935,460
  rectangle: 5890,340 5935,360
  rectangle: 5890,240 5935,260
  rectangle: 6065,240 6135,260
  rectangle: 6065,140 6135,160
  rectangle: 5890,140 5935,160
  rectangle: 5890,40 5935,60
  rectangle: 6065,40 6135,60
  rectangle: 6065,-60 6135,-40
  rectangle: 5890,-60 5935,-40
  rectangle: 6065,-160 6135,-140
  rectangle: 5890,-160 5935,-140
  rectangle: 6065,-260 6135,-240
  rectangle: 5890,-260 5935,-240
  rectangle: 5890,-360 5935,-340
  rectangle: 6065,-360 6135,-340
  rectangle: 6065,-460 6135,-440
  rectangle: 5890,-460 5935,-440
  rectangle: 6065,-660 6135,-640
  rectangle: 5890,-660 5935,-640
  rectangle: 6065,-560 6135,-540
  rectangle: 5890,-560 5935,-540
  rectangle: 6065,-760 6135,-740
  rectangle: 5890,-760 5935,-740
  rectangle: 5890,-860 5935,-840
  rectangle: 6065,-860 6135,-840
  rectangle: 6065,-960 6135,-940
  rectangle: 5890,-960 5935,-940
  rectangle: 6065,-1060 6135,-1040
  rectangle: 5890,-1060 5935,-1040
  rectangle: 6065,-1160 6135,-1140
  rectangle: 5890,-1160 5935,-1140
  rectangle: 5890,-1260 5935,-1240
  rectangle: 6065,-1260 6135,-1240
  rectangle: 6065,-1360 6135,-1340
  rectangle: 5890,-1360 5935,-1340
  rectangle: 5890,-1460 5935,-1440
  rectangle: 6065,-1460 6135,-1440
  rectangle: 6065,-1560 6135,-1540
  rectangle: 5890,-1560 5935,-1540
  rectangle: 5965,-1560 6035,-1540
  rectangle: 5965,-1460 6035,-1440
  rectangle: 5965,-1360 6035,-1340
  rectangle: 5965,-1260 6035,-1240
  rectangle: 5965,-1160 6035,-1140
  rectangle: 5965,-1060 6035,-1040
  rectangle: 5965,-960 6035,-940
  rectangle: 5965,-860 6035,-840
  rectangle: 5965,-760 6035,-740
  rectangle: 5965,-660 6035,-640
  rectangle: 5965,-560 6035,-540
  rectangle: 5965,-460 6035,-440
  rectangle: 5965,-360 6035,-340
  rectangle: 5965,-260 6035,-240
  rectangle: 5965,-160 6035,-140
  rectangle: 5965,-60 6035,-40
  rectangle: 5965,40 6035,60
  rectangle: 5965,140 6035,160
  rectangle: 5965,240 6035,260
  rectangle: 5965,340 6035,360
  rectangle: 5965,440 6035,460
  rectangle: 5965,540 6035,560
  rectangle: 5965,640 6035,660
  rectangle: 5965,740 6035,760
  rectangle: 5965,840 6035,860
  rectangle: 5965,940 6035,960
  rectangle: 5965,1040 6035,1060
  rectangle: 5965,1140 6035,1160
  rectangle: 5965,1240 6035,1260
  rectangle: 5965,1340 6035,1360
  rectangle: 5965,1440 6035,1460
  rectangle: 5965,1540 6035,1560

## VG96B [mil]
pads (100):
  round 110 hole 110: 1(150,-1750) 1(150,1750) 1(6200,-1750) 1(6200,1750)
  round 63 hole 36: A1(6100,1550)
  oct 61x61 hole 36: A2(6100,1450) A3(6100,1350) A4(6100,1250) A5(6100,1150) A6(6100,1050) A7(6100,950) A8(6100,850) A9(6100,750) A10(6100,650) A11(6100,550) A12(6100,450) A13(6100,350) A14(6100,250) A15(6100,150) A16(6100,50) A17(6100,-50) A18(6100,-150) A19(6100,-250) A20(6100,-350) A21(6100,-450) A22(6100,-550) A23(6100,-650) A24(6100,-750) A25(6100,-850) A26(6100,-950) A27(6100,-1050) A28(6100,-1150) A29(6100,-1250) A30(6100,-1350) A31(6100,-1450) A32(6100,-1550) B1(6000,1550) B2(6000,1450) B3(6000,1350) B4(6000,1250) B5(6000,1150) B6(6000,1050) B7(6000,950) B8(6000,850) B9(6000,750) B10(6000,650) B11(6000,550) B12(6000,450) B13(6000,350) B14(6000,250) B15(6000,150) B16(6000,50) B17(6000,-50) B18(6000,-150) B19(6000,-250) B20(6000,-350) B21(6000,-450) B22(6000,-550) B23(6000,-650) B24(6000,-750) B25(6000,-850) B26(6000,-950) B27(6000,-1050) B28(6000,-1150) B29(6000,-1250) B30(6000,-1350) B31(6000,-1450) B32(6000,-1550) C1(5900,1550) C2(5900,1450) C3(5900,1350) C4(5900,1250) C5(5900,1150) C6(5900,1050) C7(5900,950) C8(5900,850) C9(5900,750) C10(5900,650) C11(5900,550) C12(5900,450) C13(5900,350) C14(5900,250) C15(5900,150) C16(5900,50) C17(5900,-50) C18(5900,-150) C19(5900,-250) C20(5900,-350) C21(5900,-450) C22(5900,-550) C23(5900,-650) C24(5900,-750) C25(5900,-850) C26(5900,-950) C27(5900,-1050) C28(5900,-1150) C29(5900,-1250) C30(5900,-1350) C31(5900,-1450) C32(5900,-1550)
Top Layer:
  lines w50: -15,-1694 -15,-1994 285,-1994 ; -15,1694 -15,1994 285,1994 ; 6035,-1994 6335,-1994 6335,-1694 ; 6035,1994 6335,1994 6335,1694
Bottom Layer:
  lines w50: -15,-1694 -15,-1994 285,-1994 ; -15,1694 -15,1994 285,1994 ; 6035,-1994 6335,-1994 6335,-1694 ; 6035,1994 6335,1994 6335,1694
Top Solder:
  lines w6: 10,-1669 10,-1969 310,-1969 ; 10,1669 10,1969 310,1969 ; 6010,-1969 6310,-1969 6310,-1669 ; 6010,1969 6310,1969 6310,1669
Bottom Solder:
  lines w6: 10,-1669 10,-1969 310,-1969 ; 10,1669 10,1969 310,1969 ; 6010,-1969 6310,-1969 6310,-1669 ; 6010,1969 6310,1969 6310,1669
Keep-Out Layer:
  rectangle: 10,1850 6310,1969
  rectangle: 10,1850 6310,1969
  rectangle: 10,-1969 6310,-1850
  rectangle: 10,-1969 6310,-1850
  lines w2: 10,-1969 10,-1850 10,-1969 ; 10,1850 10,1969 10,1850 ; 6310,-1969 6310,-1850 6310,-1969 ; 6310,1850 6310,1969 6310,1850
Mechanical 1:
  lines w0: 10,-1969 6310,-1969 6310,1969 10,1969 10,-1969
Mechanical 2:
  drawing of 170 lines, arcs and shapes, not listed
Mechanical 11 keep-out:
  circle w0: c6200,-1750 r90
  circle w0: c6200,1750 r90
  circle w0: c150,-1750 r90
  circle w0: c150,1750 r90
Mechanical 12:
  circle w0: c6200,-1750 r90
  circle w0: c6200,1750 r90
  circle w0: c150,-1750 r90
  circle w0: c150,1750 r90
  rectangle: 10,1850 6310,1969
  rectangle: 10,-1969 6310,-1850
Mechanical 14:
  lines w6: -370,-1969 -320,-1969 ; -370,1969 -320,1969 ; -120,-1969 -320,-1969 ; -120,1969 -320,1969 ; 10,-2319 10,-2269 ; 10,-2069 10,-2269 ; 10,-1669 10,-1969 310,-1969 ; 10,1669 10,1969 310,1969 ; 6010,-1969 6310,-1969 6310,-1669 ; 6010,1969 6310,1969 6310,1669 ; 6310,-2319 6310,-2269 ; 6310,-2069 6310,-2269 ; -320,-1969 -320,1969 ; -320,-1969 -345,-1769 -295,-1769 -320,-1969 ; -320,1969 -295,1769 -345,1769 -320,1969 ; 10,-2269 6310,-2269 ; 10,-2269 210,-2244 210,-2294 10,-2269 ; 6310,-2269 6110,-2294 6110,-2244 6310,-2269
Mechanical 16:
  circle w10: c6100,2499 r100
  circle w10: c200,-2499 r100
  rectangle: 6100,2324 6275,2399
  rectangle: 6200,2399 6275,2599
  rectangle: 6100,2599 6275,2674
  rectangle: 200,-2674 375,-2599
  rectangle: 300,-2599 375,-2399
  rectangle: 200,-2399 375,-2324
  lines w4: 0,-2499 25,-2499 400,-2499 ; 200,-2699 200,-2299 ; 5900,2499 5925,2499 6300,2499 ; 6100,2299 6100,2699
  lines w10: 25,-2674 375,-2674 375,-2324 25,-2324 25,-2499 25,-2674 ; 100,-2599 100,-2399 300,-2399 300,-2599 100,-2599 ; 5925,2324 6275,2324 6275,2674 5925,2674 5925,2499 5925,2324 ; 6000,2399 6000,2599 6200,2599 6200,2399 6000,2399
Mechanical 18:
  rectangle: 6065,1540 6135,1560
  rectangle: 5890,1540 5935,1560
  rectangle: 6065,1440 6135,1460
  rectangle: 5890,1440 5935,1460
  rectangle: 5890,1340 5935,1360
  rectangle: 6065,1340 6135,1360
  rectangle: 6065,1240 6135,1260
  rectangle: 5890,1240 5935,1260
  rectangle: 6065,1140 6135,1160
  rectangle: 6065,1040 6135,1060
  rectangle: 5890,1140 5935,1160
  rectangle: 5890,1040 5935,1060
  rectangle: 5890,940 5935,960
  rectangle: 6065,940 6135,960
  rectangle: 6065,840 6135,860
  rectangle: 5890,840 5935,860
  rectangle: 6065,740 6135,760
  rectangle: 5890,740 5935,760
  rectangle: 6065,640 6135,660
  rectangle: 5890,640 5935,660
  rectangle: 5890,540 5935,560
  rectangle: 6065,540 6135,560
  rectangle: 6065,440 6135,460
  rectangle: 6065,340 6135,360
  rectangle: 5890,440 5935,460
  rectangle: 5890,340 5935,360
  rectangle: 5890,240 5935,260
  rectangle: 6065,240 6135,260
  rectangle: 6065,140 6135,160
  rectangle: 5890,140 5935,160
  rectangle: 5890,40 5935,60
  rectangle: 6065,40 6135,60
  rectangle: 6065,-60 6135,-40
  rectangle: 5890,-60 5935,-40
  rectangle: 6065,-160 6135,-140
  rectangle: 5890,-160 5935,-140
  rectangle: 6065,-260 6135,-240
  rectangle: 5890,-260 5935,-240
  rectangle: 5890,-360 5935,-340
  rectangle: 6065,-360 6135,-340
  rectangle: 6065,-460 6135,-440
  rectangle: 5890,-460 5935,-440
  rectangle: 6065,-660 6135,-640
  rectangle: 5890,-660 5935,-640
  rectangle: 6065,-560 6135,-540
  rectangle: 5890,-560 5935,-540
  rectangle: 6065,-760 6135,-740
  rectangle: 5890,-760 5935,-740
  rectangle: 5890,-860 5935,-840
  rectangle: 6065,-860 6135,-840
  rectangle: 6065,-960 6135,-940
  rectangle: 5890,-960 5935,-940
  rectangle: 6065,-1060 6135,-1040
  rectangle: 5890,-1060 5935,-1040
  rectangle: 6065,-1160 6135,-1140
  rectangle: 5890,-1160 5935,-1140
  rectangle: 5890,-1260 5935,-1240
  rectangle: 6065,-1260 6135,-1240
  rectangle: 6065,-1360 6135,-1340
  rectangle: 5890,-1360 5935,-1340
  rectangle: 5890,-1460 5935,-1440
  rectangle: 6065,-1460 6135,-1440
  rectangle: 6065,-1560 6135,-1540
  rectangle: 5890,-1560 5935,-1540
  rectangle: 5965,-1560 6035,-1540
  rectangle: 5965,-1460 6035,-1440
  rectangle: 5965,-1360 6035,-1340
  rectangle: 5965,-1260 6035,-1240
  rectangle: 5965,-1160 6035,-1140
  rectangle: 5965,-1060 6035,-1040
  rectangle: 5965,-960 6035,-940
  rectangle: 5965,-860 6035,-840
  rectangle: 5965,-760 6035,-740
  rectangle: 5965,-660 6035,-640
  rectangle: 5965,-560 6035,-540
  rectangle: 5965,-460 6035,-440
  rectangle: 5965,-360 6035,-340
  rectangle: 5965,-260 6035,-240
  rectangle: 5965,-160 6035,-140
  rectangle: 5965,-60 6035,-40
  rectangle: 5965,40 6035,60
  rectangle: 5965,140 6035,160
  rectangle: 5965,240 6035,260
  rectangle: 5965,340 6035,360
  rectangle: 5965,440 6035,460
  rectangle: 5965,540 6035,560
  rectangle: 5965,640 6035,660
  rectangle: 5965,740 6035,760
  rectangle: 5965,840 6035,860
  rectangle: 5965,940 6035,960
  rectangle: 5965,1040 6035,1060
  rectangle: 5965,1140 6035,1160
  rectangle: 5965,1240 6035,1260
  rectangle: 5965,1340 6035,1360
  rectangle: 5965,1440 6035,1460
  rectangle: 5965,1540 6035,1560

## VG96K [mil]
pads (98):
  round 110 hole 110: 1(6200,-1750) 1(6200,1750)
  round 63 hole 36: A1(6100,1550)
  oct 61x61 hole 36: A2(6100,1450) A3(6100,1350) A4(6100,1250) A5(6100,1150) A6(6100,1050) A7(6100,950) A8(6100,850) A9(6100,750) A10(6100,650) A11(6100,550) A12(6100,450) A13(6100,350) A14(6100,250) A15(6100,150) A16(6100,50) A17(6100,-50) A18(6100,-150) A19(6100,-250) A20(6100,-350) A21(6100,-450) A22(6100,-550) A23(6100,-650) A24(6100,-750) A25(6100,-850) A26(6100,-950) A27(6100,-1050) A28(6100,-1150) A29(6100,-1250) A30(6100,-1350) A31(6100,-1450) A32(6100,-1550) B1(6000,1550) B2(6000,1450) B3(6000,1350) B4(6000,1250) B5(6000,1150) B6(6000,1050) B7(6000,950) B8(6000,850) B9(6000,750) B10(6000,650) B11(6000,550) B12(6000,450) B13(6000,350) B14(6000,250) B15(6000,150) B16(6000,50) B17(6000,-50) B18(6000,-150) B19(6000,-250) B20(6000,-350) B21(6000,-450) B22(6000,-550) B23(6000,-650) B24(6000,-750) B25(6000,-850) B26(6000,-950) B27(6000,-1050) B28(6000,-1150) B29(6000,-1250) B30(6000,-1350) B31(6000,-1450) B32(6000,-1550) C1(5900,1550) C2(5900,1450) C3(5900,1350) C4(5900,1250) C5(5900,1150) C6(5900,1050) C7(5900,950) C8(5900,850) C9(5900,750) C10(5900,650) C11(5900,550) C12(5900,450) C13(5900,350) C14(5900,250) C15(5900,150) C16(5900,50) C17(5900,-50) C18(5900,-150) C19(5900,-250) C20(5900,-350) C21(5900,-450) C22(5900,-550) C23(5900,-650) C24(5900,-750) C25(5900,-850) C26(5900,-950) C27(5900,-1050) C28(5900,-1150) C29(5900,-1250) C30(5900,-1350) C31(5900,-1450) C32(5900,-1550)
Top Layer:
  lines w50: 15,-1694 15,-1994 315,-1994 ; 15,1694 15,1994 315,1994 ; 6035,-1994 6335,-1994 6335,-1694 ; 6035,1994 6335,1994 6335,1694
Bottom Layer:
  lines w50: 15,-1694 15,-1994 315,-1994 ; 15,1694 15,1994 315,1994 ; 6035,-1994 6335,-1994 6335,-1694 ; 6035,1994 6335,1994 6335,1694
Top Solder:
  lines w6: 40,-1669 40,-1969 340,-1969 ; 40,1669 40,1969 340,1969 ; 6010,-1969 6310,-1969 6310,-1669 ; 6010,1969 6310,1969 6310,1669
Bottom Solder:
  lines w6: 40,-1669 40,-1969 340,-1969 ; 40,1669 40,1969 340,1969 ; 6010,-1969 6310,-1969 6310,-1669 ; 6010,1969 6310,1969 6310,1669
Keep-Out Layer:
  rectangle: 10,1850 6310,1969
  rectangle: 10,1850 6310,1969
  rectangle: 10,-1969 6310,-1850
  rectangle: 10,-1969 6310,-1850
  lines w2: 40,-1969 40,-1850 40,-1969 ; 40,1850 40,1969 40,1850 ; 6310,-1969 6310,-1850 6310,-1969 ; 6310,1850 6310,1969 6310,1850
Mechanical 1:
  lines w0: 40,-1969 6310,-1969 6310,1969 40,1969 40,-1969
Mechanical 2:
  drawing of 168 lines, arcs and shapes, not listed
Mechanical 11 keep-out:
  circle w0: c6200,-1750 r90
  circle w0: c6200,1750 r90
Mechanical 12:
  circle w0: c6200,-1750 r90
  circle w0: c6200,1750 r90
  rectangle: 10,1850 6310,1969
  rectangle: 10,-1969 6310,-1850
Mechanical 14:
  lines w6: -340,-1969 -290,-1969 ; -340,1969 -290,1969 ; -90,-1969 -290,-1969 ; -90,1969 -290,1969 ; 40,-2319 40,-2269 ; 40,-2069 40,-2269 ; 40,-1669 40,-1969 340,-1969 ; 40,1669 40,1969 340,1969 ; 6010,-1969 6310,-1969 6310,-1669 ; 6010,1969 6310,1969 6310,1669 ; 6310,-2319 6310,-2269 ; 6310,-2069 6310,-2269 ; -290,-1969 -290,1969 ; -290,-1969 -315,-1769 -265,-1769 -290,-1969 ; -290,1969 -265,1769 -315,1769 -290,1969 ; 40,-2269 6310,-2269 ; 40,-2269 240,-2244 240,-2294 40,-2269 ; 6310,-2269 6110,-2294 6110,-2244 6310,-2269
Mechanical 16:
  circle w10: c6100,2499 r100
  circle w10: c200,-2499 r100
  rectangle: 6100,2324 6275,2399
  rectangle: 6200,2399 6275,2599
  rectangle: 6100,2599 6275,2674
  rectangle: 200,-2674 375,-2599
  rectangle: 300,-2599 375,-2399
  rectangle: 200,-2399 375,-2324
  lines w4: 0,-2499 25,-2499 400,-2499 ; 200,-2699 200,-2299 ; 5900,2499 5925,2499 6300,2499 ; 6100,2299 6100,2699
  lines w10: 25,-2674 375,-2674 375,-2324 25,-2324 25,-2499 25,-2674 ; 100,-2599 100,-2399 300,-2399 300,-2599 100,-2599 ; 5925,2324 6275,2324 6275,2674 5925,2674 5925,2499 5925,2324 ; 6000,2399 6000,2599 6200,2599 6200,2399 6000,2399
Mechanical 18:
  rectangle: 6065,1540 6135,1560
  rectangle: 5890,1540 5935,1560
  rectangle: 6065,1440 6135,1460
  rectangle: 5890,1440 5935,1460
  rectangle: 5890,1340 5935,1360
  rectangle: 6065,1340 6135,1360
  rectangle: 6065,1240 6135,1260
  rectangle: 5890,1240 5935,1260
  rectangle: 6065,1140 6135,1160
  rectangle: 6065,1040 6135,1060
  rectangle: 5890,1140 5935,1160
  rectangle: 5890,1040 5935,1060
  rectangle: 5890,940 5935,960
  rectangle: 6065,940 6135,960
  rectangle: 6065,840 6135,860
  rectangle: 5890,840 5935,860
  rectangle: 6065,740 6135,760
  rectangle: 5890,740 5935,760
  rectangle: 6065,640 6135,660
  rectangle: 5890,640 5935,660
  rectangle: 5890,540 5935,560
  rectangle: 6065,540 6135,560
  rectangle: 6065,440 6135,460
  rectangle: 6065,340 6135,360
  rectangle: 5890,440 5935,460
  rectangle: 5890,340 5935,360
  rectangle: 5890,240 5935,260
  rectangle: 6065,240 6135,260
  rectangle: 6065,140 6135,160
  rectangle: 5890,140 5935,160
  rectangle: 5890,40 5935,60
  rectangle: 6065,40 6135,60
  rectangle: 6065,-60 6135,-40
  rectangle: 5890,-60 5935,-40
  rectangle: 6065,-160 6135,-140
  rectangle: 5890,-160 5935,-140
  rectangle: 6065,-260 6135,-240
  rectangle: 5890,-260 5935,-240
  rectangle: 5890,-360 5935,-340
  rectangle: 6065,-360 6135,-340
  rectangle: 6065,-460 6135,-440
  rectangle: 5890,-460 5935,-440
  rectangle: 6065,-660 6135,-640
  rectangle: 5890,-660 5935,-640
  rectangle: 6065,-560 6135,-540
  rectangle: 5890,-560 5935,-540
  rectangle: 6065,-760 6135,-740
  rectangle: 5890,-760 5935,-740
  rectangle: 5890,-860 5935,-840
  rectangle: 6065,-860 6135,-840
  rectangle: 6065,-960 6135,-940
  rectangle: 5890,-960 5935,-940
  rectangle: 6065,-1060 6135,-1040
  rectangle: 5890,-1060 5935,-1040
  rectangle: 6065,-1160 6135,-1140
  rectangle: 5890,-1160 5935,-1140
  rectangle: 5890,-1260 5935,-1240
  rectangle: 6065,-1260 6135,-1240
  rectangle: 6065,-1360 6135,-1340
  rectangle: 5890,-1360 5935,-1340
  rectangle: 5890,-1460 5935,-1440
  rectangle: 6065,-1460 6135,-1440
  rectangle: 6065,-1560 6135,-1540
  rectangle: 5890,-1560 5935,-1540
  rectangle: 5965,-1560 6035,-1540
  rectangle: 5965,-1460 6035,-1440
  rectangle: 5965,-1360 6035,-1340
  rectangle: 5965,-1260 6035,-1240
  rectangle: 5965,-1160 6035,-1140
  rectangle: 5965,-1060 6035,-1040
  rectangle: 5965,-960 6035,-940
  rectangle: 5965,-860 6035,-840
  rectangle: 5965,-760 6035,-740
  rectangle: 5965,-660 6035,-640
  rectangle: 5965,-560 6035,-540
  rectangle: 5965,-460 6035,-440
  rectangle: 5965,-360 6035,-340
  rectangle: 5965,-260 6035,-240
  rectangle: 5965,-160 6035,-140
  rectangle: 5965,-60 6035,-40
  rectangle: 5965,40 6035,60
  rectangle: 5965,140 6035,160
  rectangle: 5965,240 6035,260
  rectangle: 5965,340 6035,360
  rectangle: 5965,440 6035,460
  rectangle: 5965,540 6035,560
  rectangle: 5965,640 6035,660
  rectangle: 5965,740 6035,760
  rectangle: 5965,840 6035,860
  rectangle: 5965,940 6035,960
  rectangle: 5965,1040 6035,1060
  rectangle: 5965,1140 6035,1160
  rectangle: 5965,1240 6035,1260
  rectangle: 5965,1340 6035,1360
  rectangle: 5965,1440 6035,1460
  rectangle: 5965,1540 6035,1560

## VG96KB [mil]
pads (100):
  round 110 hole 110: 1(150,-1750) 1(150,1750) 1(6200,-1750) 1(6200,1750)
  round 63 hole 36: A1(6100,1550)
  oct 61x61 hole 36: A2(6100,1450) A3(6100,1350) A4(6100,1250) A5(6100,1150) A6(6100,1050) A7(6100,950) A8(6100,850) A9(6100,750) A10(6100,650) A11(6100,550) A12(6100,450) A13(6100,350) A14(6100,250) A15(6100,150) A16(6100,50) A17(6100,-50) A18(6100,-150) A19(6100,-250) A20(6100,-350) A21(6100,-450) A22(6100,-550) A23(6100,-650) A24(6100,-750) A25(6100,-850) A26(6100,-950) A27(6100,-1050) A28(6100,-1150) A29(6100,-1250) A30(6100,-1350) A31(6100,-1450) A32(6100,-1550) B1(6000,1550) B2(6000,1450) B3(6000,1350) B4(6000,1250) B5(6000,1150) B6(6000,1050) B7(6000,950) B8(6000,850) B9(6000,750) B10(6000,650) B11(6000,550) B12(6000,450) B13(6000,350) B14(6000,250) B15(6000,150) B16(6000,50) B17(6000,-50) B18(6000,-150) B19(6000,-250) B20(6000,-350) B21(6000,-450) B22(6000,-550) B23(6000,-650) B24(6000,-750) B25(6000,-850) B26(6000,-950) B27(6000,-1050) B28(6000,-1150) B29(6000,-1250) B30(6000,-1350) B31(6000,-1450) B32(6000,-1550) C1(5900,1550) C2(5900,1450) C3(5900,1350) C4(5900,1250) C5(5900,1150) C6(5900,1050) C7(5900,950) C8(5900,850) C9(5900,750) C10(5900,650) C11(5900,550) C12(5900,450) C13(5900,350) C14(5900,250) C15(5900,150) C16(5900,50) C17(5900,-50) C18(5900,-150) C19(5900,-250) C20(5900,-350) C21(5900,-450) C22(5900,-550) C23(5900,-650) C24(5900,-750) C25(5900,-850) C26(5900,-950) C27(5900,-1050) C28(5900,-1150) C29(5900,-1250) C30(5900,-1350) C31(5900,-1450) C32(5900,-1550)
Top Layer:
  lines w50: 15,-1694 15,-1994 315,-1994 ; 15,1694 15,1994 315,1994 ; 6035,-1994 6335,-1994 6335,-1694 ; 6035,1994 6335,1994 6335,1694
Bottom Layer:
  lines w50: 15,-1694 15,-1994 315,-1994 ; 15,1694 15,1994 315,1994 ; 6035,-1994 6335,-1994 6335,-1694 ; 6035,1994 6335,1994 6335,1694
Top Solder:
  lines w6: 40,-1669 40,-1969 340,-1969 ; 40,1669 40,1969 340,1969 ; 6010,-1969 6310,-1969 6310,-1669 ; 6010,1969 6310,1969 6310,1669
Bottom Solder:
  lines w6: 40,-1669 40,-1969 340,-1969 ; 40,1669 40,1969 340,1969 ; 6010,-1969 6310,-1969 6310,-1669 ; 6010,1969 6310,1969 6310,1669
Keep-Out Layer:
  rectangle: 10,1850 6310,1969
  rectangle: 10,1850 6310,1969
  rectangle: 10,-1969 6310,-1850
  rectangle: 10,-1969 6310,-1850
  lines w2: 40,-1969 40,-1850 40,-1969 ; 40,1850 40,1969 40,1850 ; 6310,-1969 6310,-1850 6310,-1969 ; 6310,1850 6310,1969 6310,1850
Mechanical 1:
  lines w0: 40,-1969 6310,-1969 6310,1969 40,1969 40,-1969
Mechanical 2:
  drawing of 170 lines, arcs and shapes, not listed
Mechanical 11 keep-out:
  circle w0: c6200,-1750 r90
  circle w0: c6200,1750 r90
  circle w0: c150,-1750 r90
  circle w0: c150,1750 r90
Mechanical 12:
  circle w0: c6200,-1750 r90
  circle w0: c6200,1750 r90
  circle w0: c150,-1750 r90
  circle w0: c150,1750 r90
  rectangle: 10,1850 6310,1969
  rectangle: 10,-1969 6310,-1850
Mechanical 14:
  lines w6: -340,-1969 -290,-1969 ; -340,1969 -290,1969 ; -90,-1969 -290,-1969 ; -90,1969 -290,1969 ; 40,-2319 40,-2269 ; 40,-2069 40,-2269 ; 40,-1669 40,-1969 340,-1969 ; 40,1669 40,1969 340,1969 ; 6010,-1969 6310,-1969 6310,-1669 ; 6010,1969 6310,1969 6310,1669 ; 6310,-2319 6310,-2269 ; 6310,-2069 6310,-2269 ; -290,-1969 -290,1969 ; -290,-1969 -315,-1769 -265,-1769 -290,-1969 ; -290,1969 -265,1769 -315,1769 -290,1969 ; 40,-2269 6310,-2269 ; 40,-2269 240,-2244 240,-2294 40,-2269 ; 6310,-2269 6110,-2294 6110,-2244 6310,-2269
Mechanical 16:
  circle w10: c6100,2499 r100
  circle w10: c200,-2499 r100
  rectangle: 6100,2324 6275,2399
  rectangle: 6200,2399 6275,2599
  rectangle: 6100,2599 6275,2674
  rectangle: 200,-2674 375,-2599
  rectangle: 300,-2599 375,-2399
  rectangle: 200,-2399 375,-2324
  lines w4: 0,-2499 25,-2499 400,-2499 ; 200,-2699 200,-2299 ; 5900,2499 5925,2499 6300,2499 ; 6100,2299 6100,2699
  lines w10: 25,-2674 375,-2674 375,-2324 25,-2324 25,-2499 25,-2674 ; 100,-2599 100,-2399 300,-2399 300,-2599 100,-2599 ; 5925,2324 6275,2324 6275,2674 5925,2674 5925,2499 5925,2324 ; 6000,2399 6000,2599 6200,2599 6200,2399 6000,2399
Mechanical 18:
  rectangle: 6065,1540 6135,1560
  rectangle: 5890,1540 5935,1560
  rectangle: 6065,1440 6135,1460
  rectangle: 5890,1440 5935,1460
  rectangle: 5890,1340 5935,1360
  rectangle: 6065,1340 6135,1360
  rectangle: 6065,1240 6135,1260
  rectangle: 5890,1240 5935,1260
  rectangle: 6065,1140 6135,1160
  rectangle: 6065,1040 6135,1060
  rectangle: 5890,1140 5935,1160
  rectangle: 5890,1040 5935,1060
  rectangle: 5890,940 5935,960
  rectangle: 6065,940 6135,960
  rectangle: 6065,840 6135,860
  rectangle: 5890,840 5935,860
  rectangle: 6065,740 6135,760
  rectangle: 5890,740 5935,760
  rectangle: 6065,640 6135,660
  rectangle: 5890,640 5935,660
  rectangle: 5890,540 5935,560
  rectangle: 6065,540 6135,560
  rectangle: 6065,440 6135,460
  rectangle: 6065,340 6135,360
  rectangle: 5890,440 5935,460
  rectangle: 5890,340 5935,360
  rectangle: 5890,240 5935,260
  rectangle: 6065,240 6135,260
  rectangle: 6065,140 6135,160
  rectangle: 5890,140 5935,160
  rectangle: 5890,40 5935,60
  rectangle: 6065,40 6135,60
  rectangle: 6065,-60 6135,-40
  rectangle: 5890,-60 5935,-40
  rectangle: 6065,-160 6135,-140
  rectangle: 5890,-160 5935,-140
  rectangle: 6065,-260 6135,-240
  rectangle: 5890,-260 5935,-240
  rectangle: 5890,-360 5935,-340
  rectangle: 6065,-360 6135,-340
  rectangle: 6065,-460 6135,-440
  rectangle: 5890,-460 5935,-440
  rectangle: 6065,-660 6135,-640
  rectangle: 5890,-660 5935,-640
  rectangle: 6065,-560 6135,-540
  rectangle: 5890,-560 5935,-540
  rectangle: 6065,-760 6135,-740
  rectangle: 5890,-760 5935,-740
  rectangle: 5890,-860 5935,-840
  rectangle: 6065,-860 6135,-840
  rectangle: 6065,-960 6135,-940
  rectangle: 5890,-960 5935,-940
  rectangle: 6065,-1060 6135,-1040
  rectangle: 5890,-1060 5935,-1040
  rectangle: 6065,-1160 6135,-1140
  rectangle: 5890,-1160 5935,-1140
  rectangle: 5890,-1260 5935,-1240
  rectangle: 6065,-1260 6135,-1240
  rectangle: 6065,-1360 6135,-1340
  rectangle: 5890,-1360 5935,-1340
  rectangle: 5890,-1460 5935,-1440
  rectangle: 6065,-1460 6135,-1440
  rectangle: 6065,-1560 6135,-1540
  rectangle: 5890,-1560 5935,-1540
  rectangle: 5965,-1560 6035,-1540
  rectangle: 5965,-1460 6035,-1440
  rectangle: 5965,-1360 6035,-1340
  rectangle: 5965,-1260 6035,-1240
  rectangle: 5965,-1160 6035,-1140
  rectangle: 5965,-1060 6035,-1040
  rectangle: 5965,-960 6035,-940
  rectangle: 5965,-860 6035,-840
  rectangle: 5965,-760 6035,-740
  rectangle: 5965,-660 6035,-640
  rectangle: 5965,-560 6035,-540
  rectangle: 5965,-460 6035,-440
  rectangle: 5965,-360 6035,-340
  rectangle: 5965,-260 6035,-240
  rectangle: 5965,-160 6035,-140
  rectangle: 5965,-60 6035,-40
  rectangle: 5965,40 6035,60
  rectangle: 5965,140 6035,160
  rectangle: 5965,240 6035,260
  rectangle: 5965,340 6035,360
  rectangle: 5965,440 6035,460
  rectangle: 5965,540 6035,560
  rectangle: 5965,640 6035,660
  rectangle: 5965,740 6035,760
  rectangle: 5965,840 6035,860
  rectangle: 5965,940 6035,960
  rectangle: 5965,1040 6035,1060
  rectangle: 5965,1140 6035,1160
  rectangle: 5965,1240 6035,1260
  rectangle: 5965,1340 6035,1360
  rectangle: 5965,1440 6035,1460
  rectangle: 5965,1540 6035,1560